# Altium footprint library MC78M05ACDT.PcbLib: 1 footprints
Each footprint in its own frame and in the unit in brackets; x right, y up, seen from the top. Pads: shape width x height; smd on the part's side, far side on the other; paste and mask are expansions set on the pad; w line width, h text height; cw(c..) or ccw(c..) is an arc to the next point about the centre after c.
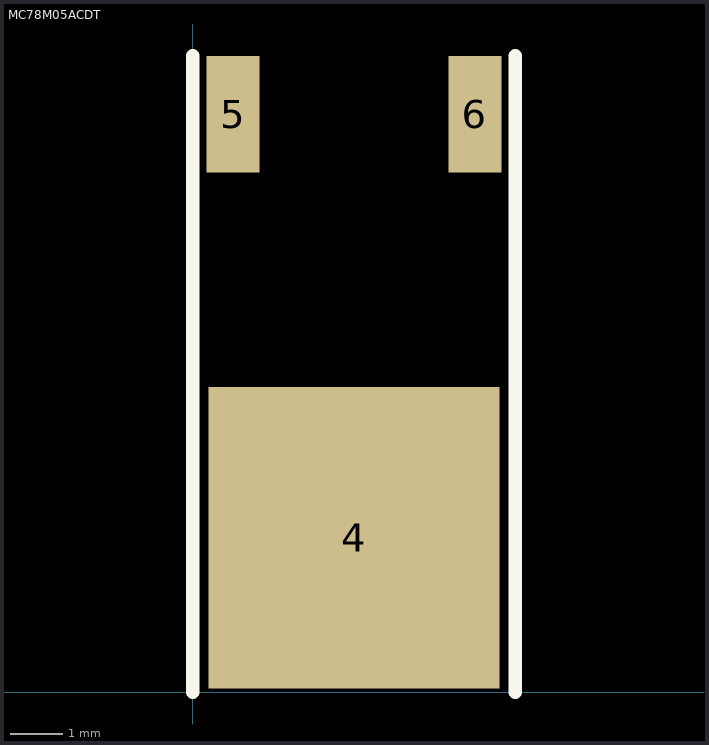
[diagram p0: the footprint, top view; thin cyan lines are the x and y axes]

## MC78M05ACDT [mm]
pads (3):
  rect 5.5x5.7 smd: 4(3.048,2.921)
  rect 1x2.2 smd: 5(0.762,10.922) 6(5.334,10.922)
Top Overlay:
  lines w0.254: 0,0 0,12.025 ; 6.096,0 6.096,12.025